# Altium integrated library PhotoMatrix.IntLib: 1 symbol
Pins are listed as number, name and electrical type; pins without a type are passive.

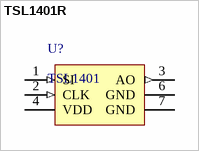
[diagram p0: symbol TSL1401R]

## TSL1401R
designator U?, comment TSL1401
footprint TSL1401R
footprint TSL1401CL
pins: 1 SI (in) "Serial input", 2 CLK (in) "Clock", 3 AO (out) "Analog output", 4 VDD (power), 6 GND (power), 7 GND (power)